# Altium schematic symbol library CON_USB_TypeA_RA_VERT_TH.SchLib: 1 symbol
Pins are listed as number, name and electrical type; pins without a type are passive.

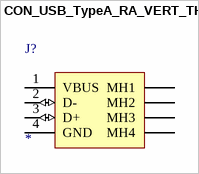
[diagram p0: symbol CON_USB_TypeA_RA_VERT_TH]

## CON_USB_TypeA_RA_VERT_TH
designator J?
pins: 1 VBUS (power), 2 D- (io), 3 D+ (io), 4 GND (power), MH1, MH2, MH3, MH4